# EAGLE library part MOLEX_SL_06 (library molex-sl-connectors_jw)
Molex SL-Series PCB Header, 6-Pos, 0.1" (2.54mm) Centers
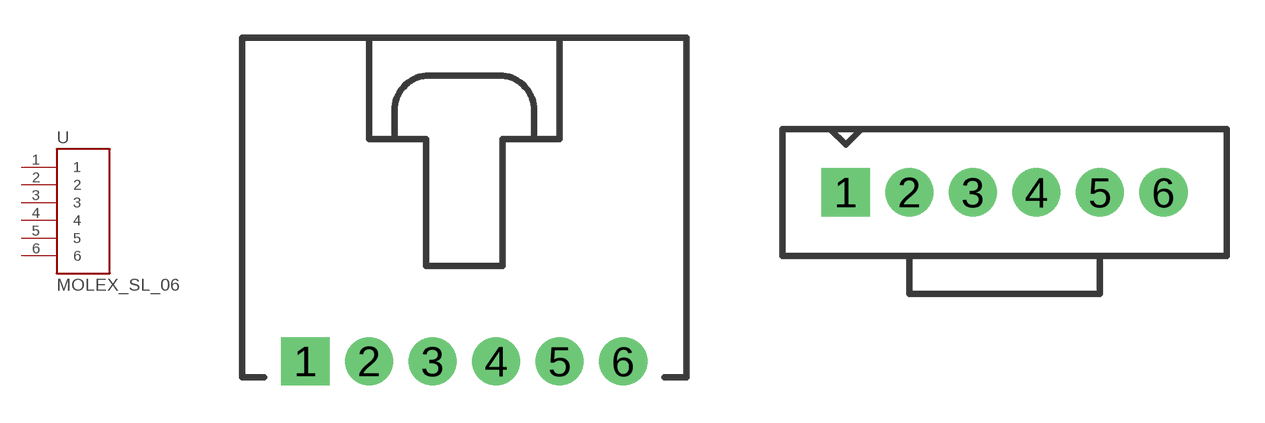
[diagram p0: symbol with the pads of SL_70553_6; footprints SL_70553_6, SL_70543_6]

Designator prefix -

## MOLEX_SL_06-70553  [SL_70553_6]
1  1
2  2
3  3
4  4
5  5
6  6

## MOLEX_SL_06-70543-74095  [SL_70543_6]
Pads as for SL_70553_6

## MOLEX_SL_06-70541-70545  [SL_70541_6]
Pads as for SL_70553_6

## MOLEX_SL_06-70551  [SL_70551_6]
Pads as for SL_70553_6

## MOLEX_SL_06-70555  [SL_70555_6]
Pads as for SL_70553_6

## MOLEX_SL_06-70634  [SL_70634_6]
Pads as for SL_70553_6

## MOLEX_SL_06-74099  [SL_74099_6]
Pads as for SL_70553_6

## MOLEX_SL_06-87898  [SL_87898_6]
Pads as for SL_70553_6

## Footprint SL_70553_6 (pad centres in mm)
Right-Angle Header w/ Latch (no pegs) 70553-0005 70553-0040 70553-0110 70553-0145 70553-5005 70553-5040
drill 1.1 pad 1.93 square: 1 -6.35,-5.08
drill 1.1 pad 1.93: 2 -3.81,-5.08; 3 -1.27,-5.08; 4 1.27,-5.08; 5 3.81,-5.08; 6 6.35,-5.08

## Footprint SL_70543_6 (pad centres in mm)
Vertical Header w/ Latch & Optional Compliant Pins (no pegs) Normal Pins: 70543-0005 70543-0040 70543-0075 70543-0110 70543-0145 70543-0169 70543-0204 70543-0252 70543-0276 70543-0300 Compliant Pins 74095-0006 74095-0036 74095-0066 74095-1036 74095-1066
drill 1.1 pad 1.93 square: 1 -6.35,1.27
drill 1.1 pad 1.93: 2 -3.81,1.27; 3 -1.27,1.27; 4 1.27,1.27; 5 3.81,1.27; 6 6.35,1.27

## Footprint SL_70541_6 (pad centres in mm)
Vertical Header w/ Latch & Pegs With Split Pegs: 70541-0005 70541-0040 70541-0075 With Tri-Pegs: 70545-0005 70545-0040 70545-0075 70545-0145 70545-0180
drill 1.1 pad 1.93 square: 1 -6.35,1.27
drill 1.1 pad 1.93: 2 -3.81,1.27; 3 -1.27,1.27; 4 1.27,1.27; 5 3.81,1.27; 6 6.35,1.27
hole 3.404 at -10.414,0.508
hole 3.404 at 10.414,0.508

## Footprint SL_70551_6 (pad centres in mm)
Right-Angle Header w/ Latch & Split Pegs 70551-0005 70551-0040 70551-0075
drill 1.1 pad 1.93 square: 1 -6.35,-5.08
drill 1.1 pad 1.93: 2 -3.81,-5.08; 3 -1.27,-5.08; 4 1.27,-5.08; 5 3.81,-5.08; 6 6.35,-5.08
hole 3.404 at -7.62,3.556
hole 3.404 at 7.62,3.556

## Footprint SL_70555_6 (pad centres in mm)
Right-Angle Header w/ Latch & Tri-Pegs 70555-0005 70555-0040 70555-0075 70555-5005
drill 1.1 pad 1.93 square: 1 -6.35,-5.08
drill 1.1 pad 1.93: 2 -3.81,-5.08; 3 -1.27,-5.08; 4 1.27,-5.08; 5 3.81,-5.08; 6 6.35,-5.08
hole 3.404 at -7.747,3.556
hole 3.404 at 7.747,3.556

## Footprint SL_70634_6 (pad centres in mm)
SMD Right-Angle Header w/ Latch & PCB Pegs 70634-0005 70634-0040 70634-0075 70634-0110 70634-0145 70634-0180 70634-0206
smd 1.651 x 5.334: 1 -6.35,-7.62; 2 -3.81,-7.62; 3 -1.27,-7.62; 4 1.27,-7.62; 5 3.81,-7.62; 6 6.35,-7.62
hole 3.404 at -7.772,3.048
hole 3.404 at 7.747,3.099

## Footprint SL_74099_6 (pad centres in mm)
SMD Vertical Header w/ Latch & PCB Pegs Package also includes Pick-N-Place Cap 74099-0606 74099-0626 74099-0646
smd 1.27 x 3.175: 1 -5.08,-2.108; 2 -2.54,2.108; 3 0,-2.108; 4 2.54,2.108; 5 5.08,-2.108; 6 7.62,2.108

## Footprint SL_87898_6 (pad centres in mm)
SMD Vertical Header (no latch or pegs) Package also includes Pick-N-Place Cap Tray packaging w/o Pick-N-Place Cap: 87898-0607 Tube packaging w/o Pick-N-Place Cap: 87898-0621 87898-0622 87898-0624 87898-0625 87898-0626 Tube packaging w/ Pick-N-Place Cap: 87898-0631 87898-0632 87898-0634 87898-0635 87898-0636 Tape & Reel packaging w/ Pick-N-Place Cap: 87898-0651 87898-0652 87898-0654 87898-0655 87898-0656 87898-0657
smd 1.27 x 2.946: 1 -6.35,1.803; 2 -3.81,-1.803; 3 -1.27,1.803; 4 1.27,-1.803; 5 3.81,1.803; 6 6.35,-1.803